# Altium footprint library Capacitors_rus.PCBLIB: 349 footprints (part 1 of 22)
Each footprint in its own frame and in the unit in brackets; x right, y up, seen from the top. Pads: shape width x height; smd on the part's side, far side on the other; paste and mask are expansions set on the pad; w line width, h text height; cw(c..) or ccw(c..) is an arc to the next point about the centre after c.
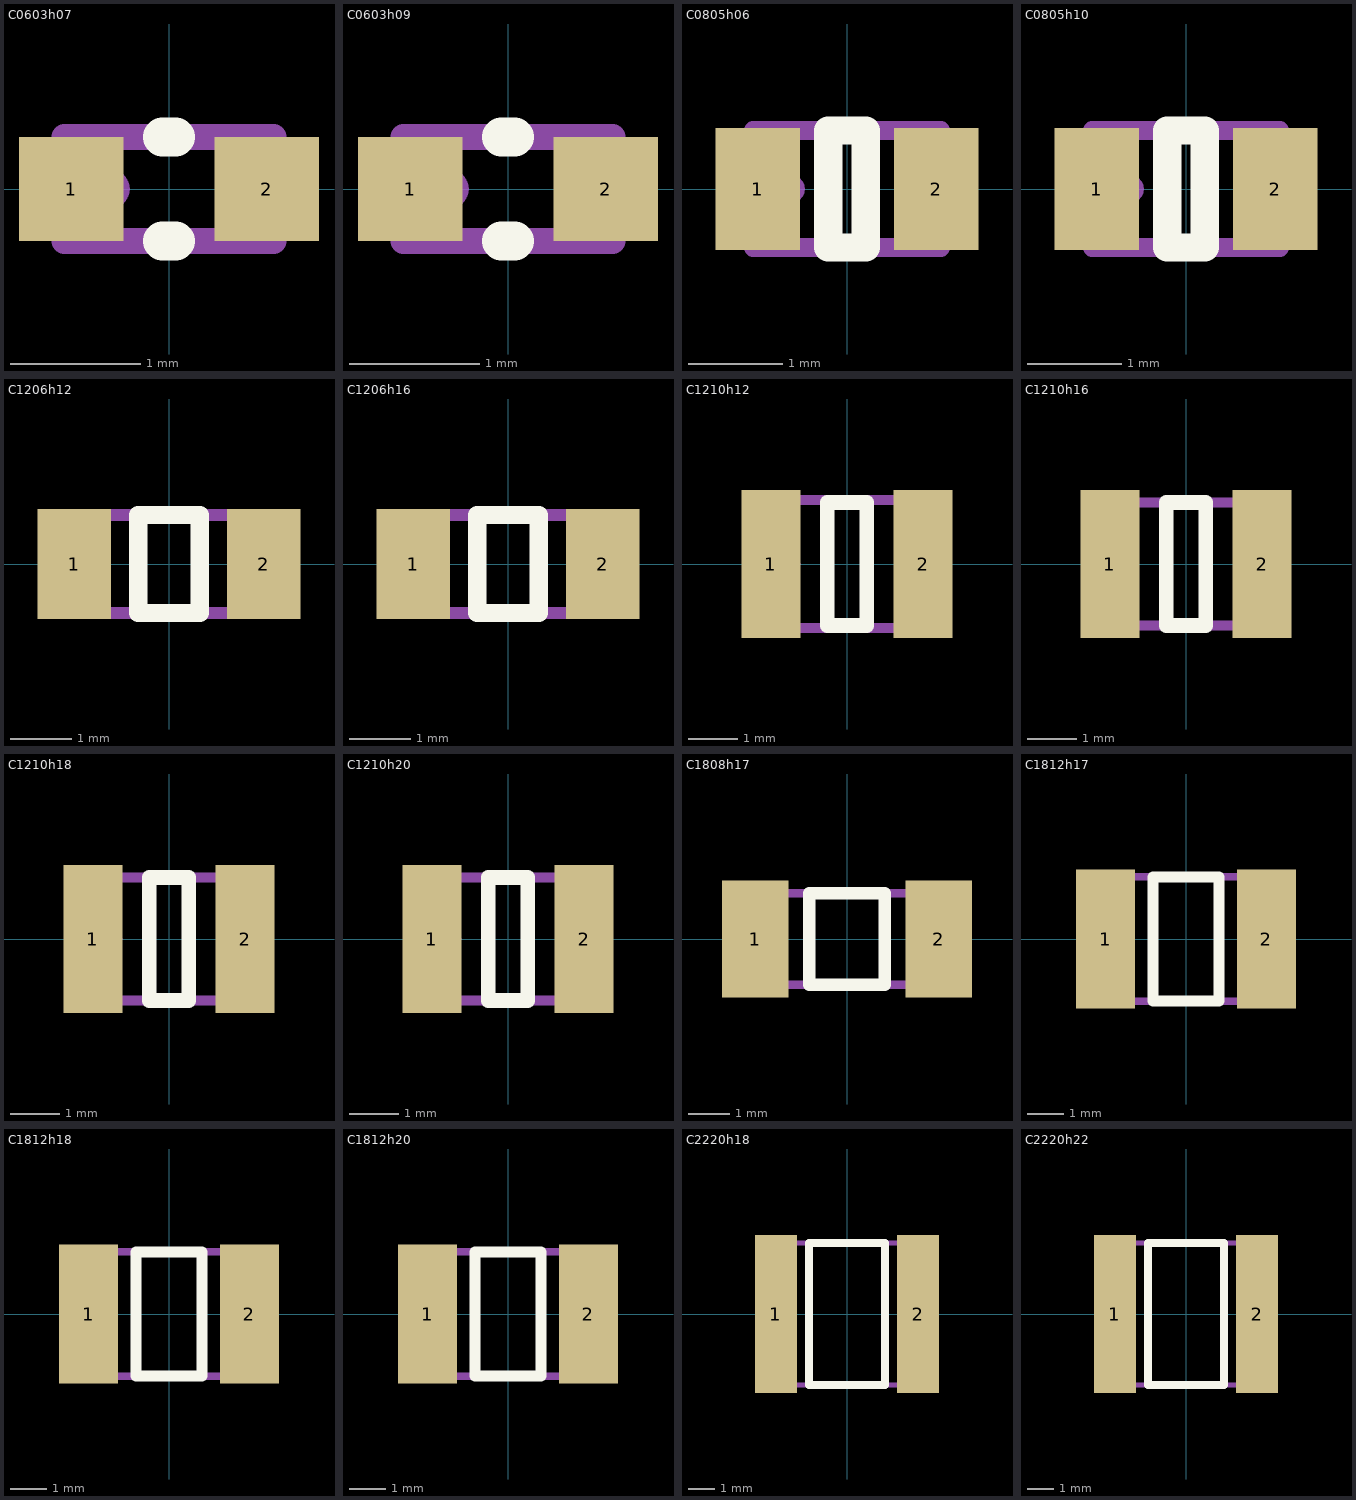
[diagram p0: the footprints below, top view; thin cyan lines are the x and y axes]

## C0603h07 [mm]
height 0.7
pads (2):
  rect 0.8x0.8 smd: 1(-0.75,0) 2(0.75,0)
Top Overlay:
  lines w0.3: -0.05,-0.4 0.05,-0.4 ; -0.05,0.4 0.05,0.4
Mechanical 1:
  circle w0.1: c-0.45,0 r0.1
  lines w0.2: -0.8,-0.4 0.8,-0.4 0.8,0.4 -0.8,0.4 -0.8,-0.4
  text ".Designator" at -0.72,0.7 h1.5
3D body: height 0.7, standoff 0, extent -0.85,-0.45 0.85,0.45

## C0603h09 [mm]
height 0.9
pads (2):
  rect 0.8x0.8 smd: 1(-0.75,0) 2(0.75,0)
Top Overlay:
  lines w0.3: -0.05,-0.4 0.05,-0.4 ; -0.05,0.4 0.05,0.4
Mechanical 1:
  circle w0.1: c-0.45,0 r0.1
  lines w0.2: -0.8,-0.4 -0.8,0.4 0.8,0.4 0.8,-0.4 -0.8,-0.4
  text ".Designator" at -0.72,0.7 h1.5
3D body: height 0.9, standoff 0, extent -0.85,-0.45 0.85,0.45

## C0805h06 [mm]
height 0.6
pads (2):
  rect 0.9x1.3 smd: 1(-0.95,0) 2(0.95,0)
Top Overlay:
  lines w0.3: -0.2,-0.625 -0.2,0.625 0.2,0.625 0.2,-0.625 -0.2,-0.625
Mechanical 1:
  circle w0.1: c-0.6,0 r0.1
  lines w0.2: -1,-0.625 1,-0.625 1,0.625 -1,0.625 -1,-0.625
  text ".Designator" at -0.87,0.95 h1.5
3D body: height 0.6, standoff 0, extent -1,-0.625 1,0.625

## C0805h10 [mm]
height 1
pads (2):
  rect 0.9x1.3 smd: 1(-0.95,0) 2(0.95,0)
Top Overlay:
  lines w0.3: -0.2,-0.625 -0.2,0.625 0.2,0.625 0.2,-0.625 -0.2,-0.625
Mechanical 1:
  circle w0.1: c-0.6,0 r0.1
  lines w0.2: -1,-0.625 1,-0.625 1,0.625 -1,0.625 -1,-0.625
  text ".Designator" at -0.87,0.95 h1.5
3D body: height 1, standoff 0, extent -1.05,-0.675 1.05,0.675

## C1206h12 [mm]
height 1.2
pads (2):
  rect 1.2x1.8 smd: 1(-1.55,0) 2(1.55,0)
Top Overlay:
  lines w0.3: -0.5,-0.8 -0.5,0.8 0.5,0.8 0.5,-0.8 -0.5,-0.8
Mechanical 1:
  circle w0.1: c-1.15,0 r0.1
  lines w0.2: -1.6,-0.8 -1.6,0.8 1.6,0.8 1.6,-0.8 -1.6,-0.8
  text ".Designator" at -1.22,1.2 h1.5
3D body: height 1.2, standoff 0, extent -1.675,-0.9 1.675,0.9

## C1206h16 [mm]
height 1.6
pads (2):
  rect 1.2x1.8 smd: 1(-1.55,0) 2(1.55,0)
Top Overlay:
  lines w0.3: -0.5,-0.8 0.5,-0.8 0.5,0.8 -0.5,0.8 -0.5,-0.8
Mechanical 1:
  circle w0.1: c-1.15,0 r0.1
  lines w0.2: -1.6,-0.8 1.6,-0.8 1.6,0.8 -1.6,0.8 -1.6,-0.8
  text ".Designator" at -1.32,1.25 h1.5
3D body: height 1.6, standoff 0, extent -1.675,-0.9 1.675,0.9

## C1210h12 [mm]
height 1.2
pads (2):
  rect 1.2x3 smd: 1(-1.55,0) 2(1.55,0)
Top Overlay:
  lines w0.3: -0.4,-1.25 0.4,-1.25 0.4,1.25 -0.4,1.25 -0.4,-1.25
Mechanical 1:
  circle w0.1: c-1.1,0 r0.1
  lines w0.2: -1.65,-1.3 1.7,-1.3 1.7,1.3 -1.65,1.3 -1.65,-1.3
  text ".Designator" at -0.87,-0.4 h1.5
3D body: height 1.2, standoff 0, extent -1.675,-1.325 1.675,1.325

## C1210h16 [mm]
height 1.6
pads (2):
  rect 1.2x3 smd: 1(-1.55,0) 2(1.55,0)
Top Overlay:
  lines w0.3: -0.4,-1.25 -0.4,1.25 0.4,1.25 0.4,-1.25 -0.4,-1.25
Mechanical 1:
  circle w0.1: c-1.15,0 r0.1
  lines w0.2: -1.6,-1.25 -1.6,1.25 1.6,1.25 1.6,-1.25 -1.6,-1.25
  text ".Designator" at -1.22,-0.4 h1.5
3D body: height 1.6, standoff 0, extent -1.675,-1.325 1.675,1.325

## C1210h18 [mm]
height 1.8
pads (2):
  rect 1.2x3 smd: 1(-1.55,0) 2(1.55,0)
Top Overlay:
  lines w0.3: -0.4,-1.25 0.4,-1.25 0.4,1.25 -0.4,1.25 -0.4,-1.25
Mechanical 1:
  circle w0.1: c-1.1,0 r0.1
  lines w0.2: -1.6,-1.25 1.6,-1.25 1.6,1.25 -1.6,1.25 -1.6,-1.25
  text ".Designator" at -0.87,-0.4 h1.5
3D body: height 1.8, standoff 0, extent -1.675,-1.325 1.675,1.325

## C1210h20 [mm]
height 2
pads (2):
  rect 1.2x3 smd: 1(-1.55,0) 2(1.55,0)
Top Overlay:
  lines w0.3: -0.4,-1.25 -0.4,1.25 0.4,1.25 0.4,-1.25 -0.4,-1.25
Mechanical 1:
  circle w0.1: c-1.1,0 r0.1
  lines w0.2: -1.6,-1.25 -1.6,1.25 1.6,1.25 1.6,-1.25 -1.6,-1.25
  text ".Designator" at -0.87,-0.4 h1.5
3D body: height 2.1, standoff 0, extent -1.675,-1.325 1.675,1.325

## C1808h17 [mm]
height 1.7
pads (2):
  rect 1.6x2.8 smd: 1(-2.2,0) 2(2.2,0)
Top Overlay:
  lines w0.3: -0.9,-1.1 0.9,-1.1 0.9,1.1 -0.9,1.1 -0.9,-1.1
Mechanical 1:
  circle w0.1: c-1.8,0 r0.1
  lines w0.2: -2.3,-1.1 2.3,-1.1 2.3,1.1 -2.3,1.1 -2.3,-1.1
  text ".Designator" at -1.37,-0.35 h1.5
3D body: height 1.7, standoff 0, extent -2.35,-1.1 2.35,1.1

## C1812h17 [mm]
height 1.7
pads (2):
  rect 1.6x3.8 smd: 1(-2.2,0) 2(2.2,0)
Top Overlay:
  lines w0.3: -0.9,-1.7 -0.9,1.7 0.9,1.7 0.9,-1.7 -0.9,-1.7
Mechanical 1:
  circle w0.1: c-1.75,0 r0.1
  lines w0.2: -2.3,-1.7 -2.3,1.7 2.3,1.7 2.3,-1.7 -2.3,-1.7
  text ".Designator" at -1.52,-0.45 h1.5
3D body: height 1.7, standoff 0, extent -2.35,-1.7 2.35,1.7

## C1812h18 [mm]
height 1.8
pads (2):
  rect 1.6x3.8 smd: 1(-2.2,0) 2(2.2,0)
Top Overlay:
  lines w0.3: -0.9,-1.7 -0.9,1.7 0.9,1.7 0.9,-1.7 -0.9,-1.7
Mechanical 1:
  circle w0.1: c-1.85,0 r0.1
  lines w0.2: -2.3,-1.7 -2.3,1.7 2.3,1.7 2.3,-1.7 -2.3,-1.7
  text ".Designator" at -1.57,-0.4 h1.5
3D body: height 1.8, standoff 0, extent -2.35,-1.7 2.35,1.7

## C1812h20 [mm]
height 2
pads (2):
  rect 1.6x3.8 smd: 1(-2.2,0) 2(2.2,0)
Top Overlay:
  lines w0.3: -0.9,-1.7 -0.9,1.7 0.9,1.7 0.9,-1.7 -0.9,-1.7
Mechanical 1:
  circle w0.1: c-1.85,0 r0.1
  lines w0.2: -2.3,-1.7 -2.3,1.7 2.3,1.7 2.3,-1.7 -2.3,-1.7
  text ".Designator" at -1.57,-0.4 h1.5
3D body: height 2, standoff 0, extent -2.35,-1.7 2.35,1.7

## C2220h18 [mm]
height 1.8
pads (2):
  rect 1.6x6 smd: 1(-2.7,0) 2(2.7,0)
Top Overlay:
  lines w0.3: -1.45,-2.7 1.45,-2.7 1.45,2.7 -1.45,2.7 -1.45,-2.7
Mechanical 1:
  circle w0.1: c-2.35,0 r0.1
  lines w0.2: -2.95,-2.7 2.95,-2.7 2.95,2.7 -2.95,2.7 -2.95,-2.7
  text ".Designator" at -2.07,-0.4 h1.5
3D body: height 1.8, standoff 0, extent -2.95,-2.6 2.95,2.6

## C2220h22 [mm]
height 2.2
pads (2):
  rect 1.6x6 smd: 1(-2.7,0) 2(2.7,0)
Top Overlay:
  lines w0.3: -1.45,-2.7 -1.45,2.7 1.45,2.7 1.45,-2.7 -1.45,-2.7
Mechanical 1:
  circle w0.1: c-2.35,0 r0.1
  lines w0.2: -2.95,-2.7 -2.95,2.7 2.95,2.7 2.95,-2.7 -2.95,-2.7
  text ".Designator" at -2.07,-0.4 h1.5
3D body: height 2.2, standoff 0, extent -2.95,-2.6 2.95,2.6